# Altium footprint library DIOAD2260W109L864D349.PcbLib: 1 footprints
Each footprint in its own frame and in the unit in brackets; x right, y up, seen from the top. Pads: shape width x height; smd on the part's side, far side on the other; paste and mask are expansions set on the pad; w line width, h text height; cw(c..) or ccw(c..) is an arc to the next point about the centre after c.
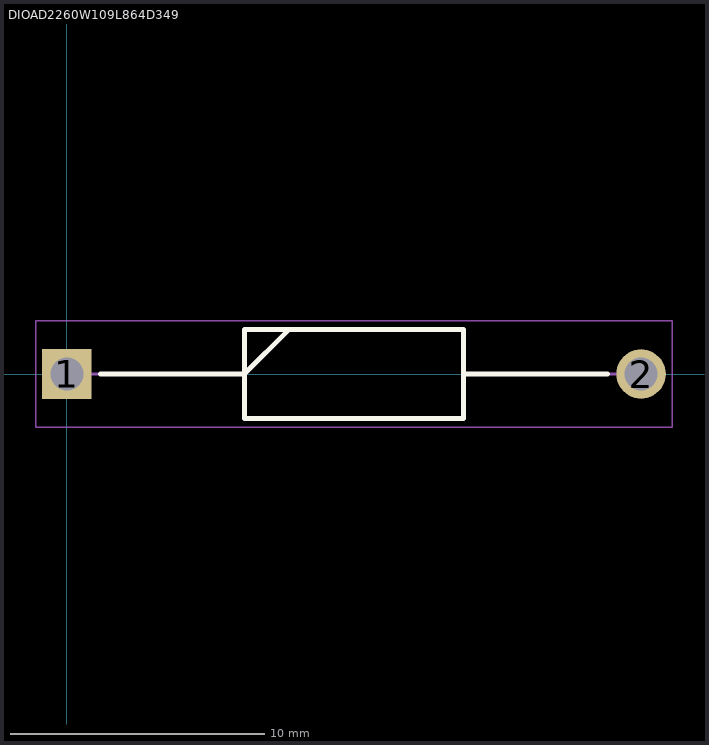
[diagram p0: the footprint, top view; thin cyan lines are the x and y axes]

## DIOAD2260W109L864D349 [mm]
pads (2):
  rect 1.95x1.95 / inner round 1.95 / far side rect 1.95x1.95 hole 1.3: 1(0,0)
  round 1.95 hole 1.3: 2(22.6,0)
Top Overlay:
  lines w0.2: 1.325,0 6.982,0 8.728,1.745 ; 15.618,0 21.275,0 ; 6.982,-1.745 15.618,-1.745 15.618,1.745 6.982,1.745 6.982,-1.745
Mechanical 15:
  lines w0.1: 0,0 6.982,0 8.727,1.745 ; 15.618,0 22.6,0 ; 6.982,-1.745 15.617,-1.745 15.617,1.745 6.982,1.745 6.982,-1.745
Mechanical 20:
  lines w0.05: -1.225,-2.095 23.825,-2.095 23.825,2.095 -1.225,2.095 -1.225,-2.095